# Altium footprint library 接口.PcbLib: 93 footprints (part 2 of 6)
Each footprint in its own frame and in the unit in brackets; x right, y up, seen from the top. Pads: shape width x height; smd on the part's side, far side on the other; paste and mask are expansions set on the pad; w line width, h text height; cw(c..) or ccw(c..) is an arc to the next point about the centre after c.
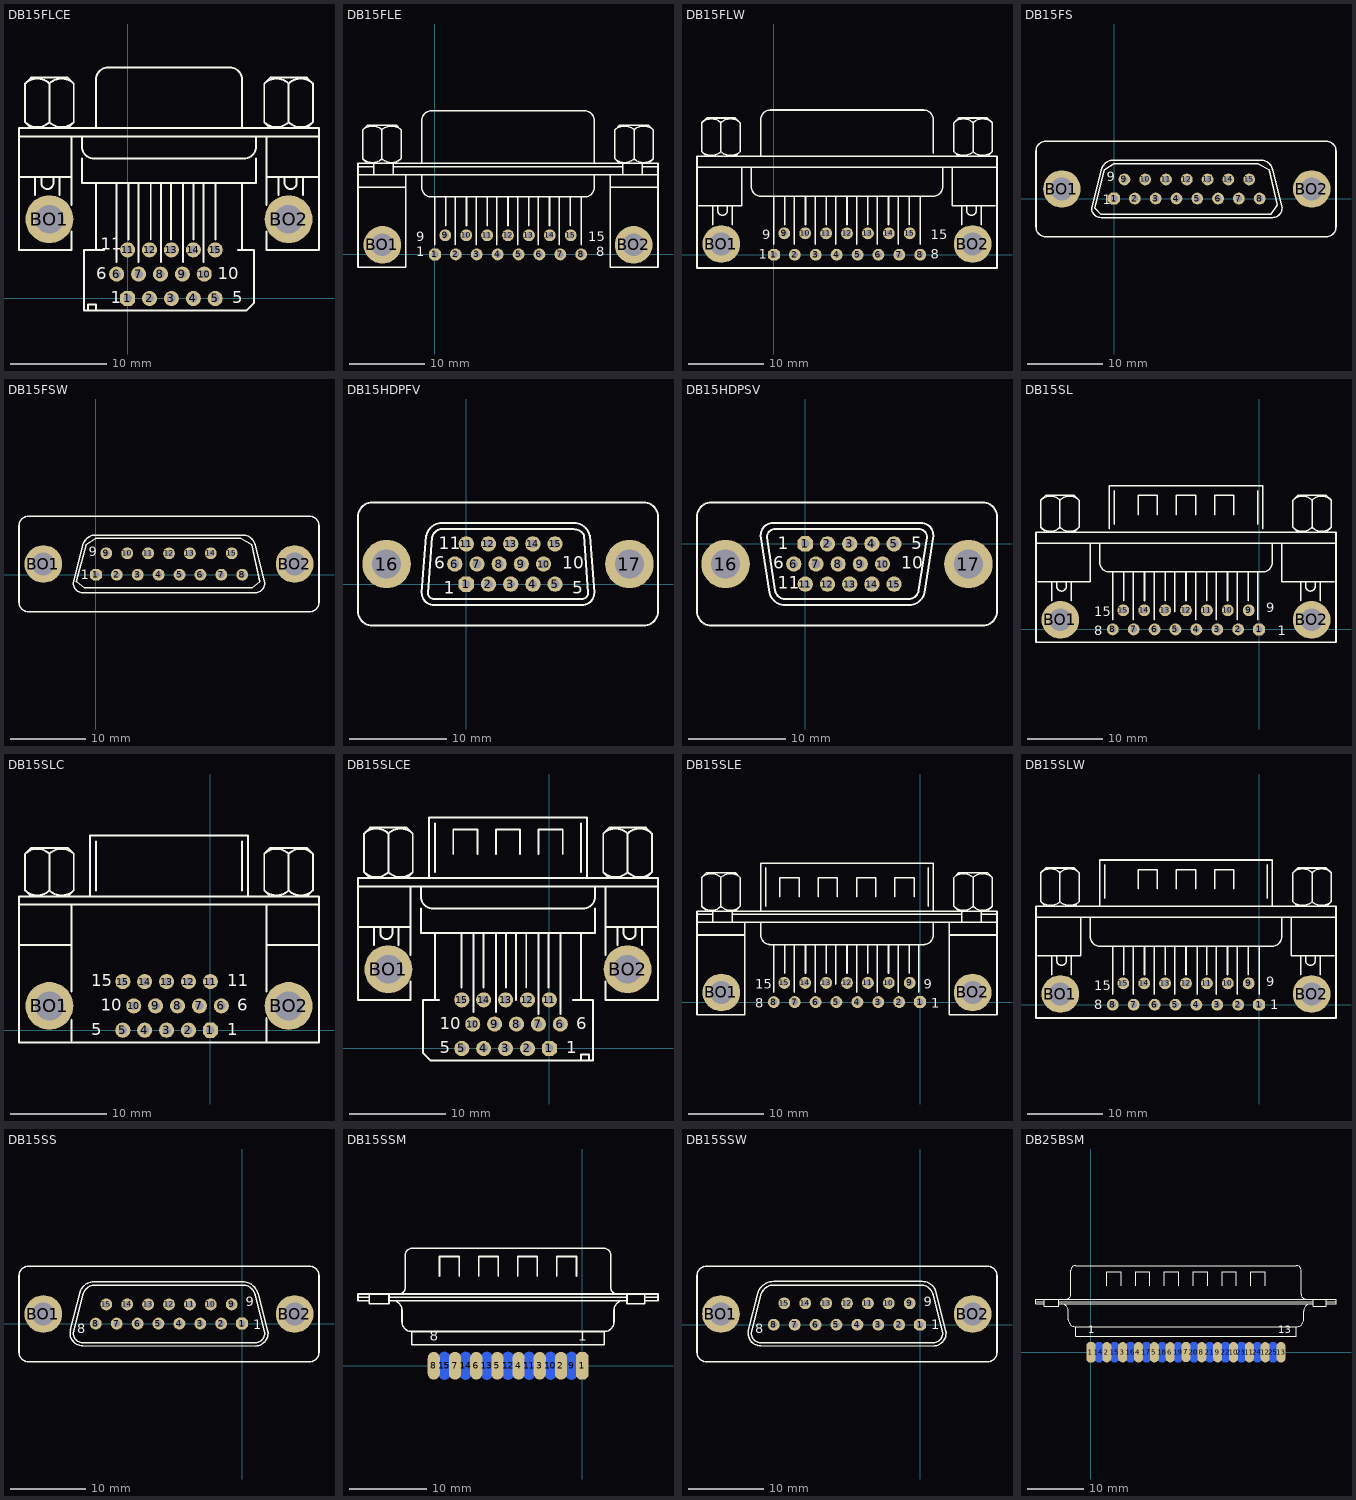
[diagram p1: the footprints below, top view; thin cyan lines are the x and y axes]

## DB15FLCE [mil]
pads (17):
  oct 62x62 hole 35: 1(0,0)
  round 62 hole 35: 2(90,0) 3(180,0) 4(270,0) 5(360,0) 6(-45,100) 7(45,100) 8(135,100) 9(225,100) 10(315,100) 11(0,200) 12(90,200) 13(180,200) 14(270,200) 15(360,200)
  round 196.67 hole 118.33: BO1(-321.67,325.83) BO2(661.67,325.83)
Top Overlay:
  lines w8: -446.67,500 -230,500 ; -446.67,666.67 786.67,666.67 ; -421.75,724.91 ccw(c-371.67,775) -321.58,724.91 ; -421.75,883.42 cw(c-371.67,833.33) -321.58,883.42 ; -396.67,700 -421.67,725 -421.67,883.33 -396.67,908.33 -246.67,908.33 -221.67,883.33 -221.67,725 -246.67,700 ; -380,425 -380,500 ; -355,500 -355,475 ccw(c-330,475) -305,475 -305,500 ; -321.75,724.91 ccw(c-271.67,775) -221.58,724.91 ; -321.75,883.42 cw(c-271.67,833.33) -221.58,883.42 ; -321.67,725 -321.67,883.33 ; -280,425 -280,500 ; -230,275 -230,200 -446.67,200 -446.67,700 786.67,700 786.67,200 570,200 570,275 ; -230,383.33 -230,500 ; -230,666.67 -230,500 ; -188.33,575 -188.33,475 528.33,475 528.33,575 ; -188.33,666.67 -188.33,625 ccw(c-138.33,625) -138.33,575 478.33,575 ccw(c478.33,625) 528.33,625 528.33,666.67 ; -163.33,-50 -163.33,-25 -130,-25 -130,-50 ; -130,200 -130,475 ; -130,700 -130,900 cw(c-80,900) -80,950 420,950 cw(c420,900) 470,900 470,700 ; -96.67,200 -180,200 -180,-50 -146.67,-50 486.67,-50 520,-16.67 520,200 453.33,200 ; -46.67,150 -46.67,475 ; 3.33,241.67 3.33,475 ; 45,150 45,475 ; 95,241.67 95,475 ; 136.67,150 136.67,475 ; 178.33,241.67 178.33,475 ; 228.33,150 228.33,475 ; 270,241.67 270,475 ; 311.67,150 311.67,475 ; 361.67,241.67 361.67,475 ; 470,200 470,475 ; 561.58,724.91 ccw(c611.67,775) 661.75,724.91 ; 561.58,883.42 cw(c611.67,833.33) 661.75,883.42 ; 570,383.33 570,500 ; 570,666.67 570,500 ; 586.67,700 561.67,725 561.67,883.33 586.67,908.33 736.67,908.33 761.67,883.33 761.67,725 736.67,700 ; 620,425 620,500 ; 645,500 645,475 ccw(c670,475) 695,475 695,500 ; 661.58,724.91 ccw(c711.67,775) 761.75,724.91 ; 661.58,883.42 cw(c711.67,833.33) 761.75,883.42 ; 661.67,725 661.67,883.33 ; 720,425 720,500 ; 786.67,500 570,500
  text "1" at -70,-20 h50
  text "5" at 430,-20 h50
  text "10" at 370,80 h50
  text "6" at -130,80 h50
  text "11" at -110,200 h50

## DB15FLE [mil]
pads (17):
  oct 62x62 hole 35: 1(0,0)
  round 62 hole 35: 2(109.17,0) 3(218.33,0) 4(327.5,0) 5(436.67,0) 6(545.83,0) 7(655,0) 8(764.17,0) 9(54.17,100) 10(163.33,100) 11(272.5,100) 12(381.67,100) 13(490.83,100) 14(600,100) 15(709.17,100)
  round 196.67 hole 118.33: BO1(-274.17,50) BO2(1037.5,50)
Top Overlay:
  lines w8: -401.67,350 -151.67,350 ; -401.67,416.67 1165,416.67 ; -401.67,458.33 -318.33,458.33 ; -376.75,499.91 ccw(c-326.67,550) -276.58,499.91 ; -376.75,650.09 cw(c-326.67,600) -276.58,650.09 ; -351.67,475 -376.67,500 -376.67,650 -351.67,675 -201.67,675 -176.67,650 -176.67,500 -201.67,483.33 ; -318.33,416.67 -318.33,475 ; -276.75,499.91 ccw(c-226.67,550) -176.58,499.91 ; -276.75,650.09 cw(c-226.67,600) -176.58,650.09 ; -276.67,500 -276.67,650 ; -218.33,416.67 -218.33,475 ; -218.33,458.33 981.67,458.33 ; -151.67,416.67 -151.67,-66.67 -401.67,-66.67 -401.67,475 1165,475 1165,-66.67 915,-66.67 915,416.67 ; -68.33,416.67 -68.33,350 ccw(c-18.33,350) -18.33,300 781.67,300 ccw(c781.67,350) 831.67,350 831.67,416.67 ; -68.33,475 -68.33,700 cw(c-18.33,700) -18.33,750 781.67,750 cw(c781.67,700) 831.67,700 831.67,475 ; -1.67,50 -1.67,300 ; 56.67,150 56.67,300 ; 106.67,50 106.67,300 ; 165,150 165,300 ; 215,50 215,300 ; 273.33,150 273.33,300 ; 323.33,50 323.33,300 ; 381.67,150 381.67,300 ; 431.67,50 431.67,300 ; 490,150 490,300 ; 540,50 540,300 ; 598.33,150 598.33,300 ; 648.33,50 648.33,300 ; 706.67,150 706.67,300 ; 765,50 765,300 ; 915,350 1165,350 ; 939.91,499.91 ccw(c990,550) 1040.09,499.91 ; 939.91,650.09 cw(c990,600) 1040.09,650.09 ; 965,475 940,500 940,650 965,675 1115,675 1140,650 1140,500 1115,475 ; 981.67,416.67 981.67,475 ; 1039.91,499.91 ccw(c1090,550) 1140.09,499.91 ; 1039.91,650.09 cw(c1090,600) 1140.09,650.09 ; 1040,500 1040,650 ; 1081.67,416.67 1081.67,475 ; 1081.67,458.33 1165,458.33
  text "8" at 841.67,-10 h50
  text "15" at 801.67,70 h50
  text "9" at -98.33,70 h50
  text "1" at -98.33,-10 h50

## DB15FLW [mil]
pads (17):
  oct 62x62 hole 35: 1(0,0)
  round 62 hole 35: 2(109.17,0) 3(218.33,0) 4(327.5,0) 5(436.67,0) 6(545.83,0) 7(655,0) 8(764.17,0) 9(54.17,111.67) 10(163.33,111.67) 11(272.5,111.67) 12(381.67,111.67) 13(490.83,111.67) 14(600,111.67) 15(709.17,111.67)
  round 196.67 hole 118.33: BO1(-274.17,55.83) BO2(1037.5,55.83)
Top Overlay:
  lines w8: -401.67,455.83 1165,455.83 ; -393.33,255.83 -368.33,255.83 -168.33,255.83 -168.33,455.83 ; -376.75,539.08 ccw(c-326.67,589.17) -276.58,539.08 ; -376.75,689.25 cw(c-326.67,639.17) -276.58,689.25 ; -351.67,514.17 -376.67,539.17 -376.67,689.17 -351.67,714.17 -201.67,714.17 -176.67,689.17 -176.67,539.17 -201.67,514.17 ; -318.33,155.83 -318.33,255.83 ; -293.33,255.83 -293.33,230.83 ccw(c-268.33,230.83) -243.33,230.83 -243.33,255.83 ; -276.75,539.08 ccw(c-226.67,589.17) -176.58,539.08 ; -276.75,689.25 cw(c-226.67,639.17) -176.58,689.25 ; -276.67,539.17 -276.67,689.17 ; -218.33,155.83 -218.33,255.83 ; -118.33,455.83 -118.33,355.83 ccw(c-68.33,355.83) -68.33,305.83 831.67,305.83 ccw(c831.67,355.83) 881.67,355.83 881.67,455.83 ; -68.33,514.17 -68.33,705.83 cw(c-18.33,705.83) -18.33,755.83 781.67,755.83 cw(c781.67,705.83) 831.67,705.83 831.67,530.83 ; -1.67,55.83 -1.67,305.83 ; 56.67,155.83 56.67,305.83 ; 106.67,55.83 106.67,305.83 ; 165,155.83 165,305.83 ; 215,55.83 215,305.83 ; 273.33,155.83 273.33,305.83 ; 323.33,55.83 323.33,305.83 ; 381.67,155.83 381.67,305.83 ; 431.67,55.83 431.67,305.83 ; 490,155.83 490,305.83 ; 540,55.83 540,305.83 ; 598.33,155.83 598.33,305.83 ; 648.33,55.83 648.33,305.83 ; 706.67,155.83 706.67,305.83 ; 765,55.83 765,305.83 ; 931.67,455.83 931.67,255.83 1156.67,255.83 ; 939.91,539.08 ccw(c990,589.17) 1040.09,539.08 ; 939.91,689.25 cw(c990,639.17) 1040.09,689.25 ; 965,514.17 940,539.17 940,689.17 965,714.17 1115,714.17 1140,689.17 1140,539.17 1115,514.17 ; 981.67,155.83 981.67,255.83 ; 1006.67,255.83 1006.67,230.83 ccw(c1031.67,230.83) 1056.67,230.83 1056.67,255.83 ; 1039.91,539.08 ccw(c1090,589.17) 1140.09,539.08 ; 1039.91,689.25 cw(c1090,639.17) 1140.09,689.25 ; 1040,539.17 1040,689.17 ; 1081.67,155.83 1081.67,255.83 ; -401.67,-69.17 1165,-69.17 1165,514.17 -401.67,514.17 -401.67,-69.17
  text "1" at -80,-20 h50
  text "8" at 820,-20 h50
  text "15" at 820,80 h50
  text "9" at -60,80 h50

## DB15FS [mil]
pads (17):
  oct 62x62 hole 35: 1(0,0)
  round 62 hole 35: 2(109.17,0) 3(218.33,0) 4(327.5,0) 5(436.67,0) 6(545.83,0) 7(655,0) 8(764.17,0) 9(54.17,100) 10(163.33,100) 11(272.5,100) 12(381.67,100) 13(490.83,100) 14(600,100) 15(709.17,100)
  round 196.67 hole 118.33: BO1(-274.17,50) BO2(1037.5,50)
Top Overlay:
  lines w8: -68.33,150 -118.33,-50 ccw(c-68.33,-50) -68.33,-100 831.67,-100 ccw(c831.67,-50) 881.67,-50 831.67,150 ; -67.97,149.86 cw(c-1.67,133.33) -18.2,199.64 ; -18.33,200 781.67,200 ; 781.57,200.26 cw(c773.33,141.67) 831.92,149.9 ; -410,-150 ccw(c-360,-150) -360,-200 1115,-200 ccw(c1115,-150) 1165,-150 1165,250 ccw(c1115,250) 1115,300 -360,300 ccw(c-360,250) -410,250 -410,-150 ; -101.67,-50 -51.67,150 -1.67,183.33 756.67,183.33 815,150 856.67,-33.33 823.33,-83.33 -68.33,-83.33 -101.67,-50
  text "9" at -38.33,90 h50
  text "1" at -58.33,-30 h50

## DB15FSW [mil]
pads (17):
  oct 62x62 hole 35: 1(0,0)
  round 62 hole 35: 2(109.17,0) 3(218.33,0) 4(327.5,0) 5(436.67,0) 6(545.83,0) 7(655,0) 8(764.17,0) 9(54.17,111.67) 10(163.33,111.67) 11(272.5,111.67) 12(381.67,111.67) 13(490.83,111.67) 14(600,111.67) 15(709.17,111.67)
  round 196.67 hole 118.33: BO1(-274.17,55.83) BO2(1037.5,55.83)
Top Overlay:
  lines w8: -68.63,155.3 cw(c6.67,130.83) -17.8,206.12 ; -68.33,155.83 -118.33,-44.17 ccw(c-68.33,-44.17) -68.33,-94.17 831.67,-94.17 ccw(c831.67,-44.17) 881.67,-44.17 831.67,155.83 ; -18.33,205.83 781.67,205.83 ; 781.53,205.47 cw(c765,139.17) 831.3,155.7 ; -401.67,-144.17 ccw(c-351.67,-144.17) -351.67,-194.17 1115,-194.17 ccw(c1115,-144.17) 1165,-144.17 1165,255.83 ccw(c1115,255.83) 1115,305.83 -351.67,305.83 ccw(c-351.67,255.83) -401.67,255.83 -401.67,-144.17 ; -101.67,-35.83 -51.67,155.83 -1.67,189.17 756.67,189.17 815,155.83 856.67,-35.83 815,-69.17 -60,-69.17 -101.67,-35.83
  text "1" at -78.33,-24.17 h50
  text "9" at -38.33,95.83 h50

## DB15HDPFV [mil]
pads (17):
  oct 62x62 hole 35: 1(0,0)
  round 62 hole 35: 2(90,0) 3(180,0) 4(270,0) 5(360,0) 6(-46.67,81.67) 7(43.33,81.67) 8(133.33,81.67) 9(223.33,81.67) 10(313.33,81.67) 11(0,163.33) 12(90,163.33) 13(180,163.33) 14(270,163.33) 15(360,163.33)
  round 196.67 hole 118.33: 16(-323.33,81.67) 17(661.67,81.67)
Top Overlay:
  lines w8: -162.5,196.67 -180.83,-35 ccw(c-130.83,-35) -130.83,-85 469.17,-85 ccw(c469.17,-35) 519.17,-35 500.83,196.67 ; -162.19,197.79 cw(c-97.5,181.67) -97.5,248.33 435.83,248.33 cw(c435.83,181.67) 500.52,197.79 ; -139.17,190 -155.83,-35 ccw(c-130.83,-35) -130.83,-60 469.17,-60 ccw(c469.17,-35) 494.17,-35 477.5,198.33 ; -138.4,189.62 cw(c-97.5,181.67) -97.5,223.33 435.83,223.33 ; 440,221.66 cw(c440,180) 477.12,198.91 ; -439.17,-110 ccw(c-380.83,-110) -380.83,-168.33 719.17,-168.33 ccw(c719.17,-110) 777.5,-110 777.5,273.33 ccw(c719.17,273.33) 719.17,331.66 -380.83,331.67 ccw(c-380.83,273.33) -439.17,273.33 -439.17,-110
  text "5" at 429.17,-38.33 h50
  text "10" at 389.17,61.67 h50
  text "11" at -110.83,141.67 h50
  text "6" at -130.83,61.67 h50
  text "1" at -90.83,-38.33 h50

## DB15HDPSV [mil]
pads (17):
  oct 62x62 hole 35: 1(0,0)
  round 62 hole 35: 2(90,0) 3(180,0) 4(270,0) 5(360,0) 6(-46.67,-81.67) 7(43.33,-81.67) 8(133.33,-81.67) 9(223.33,-81.67) 10(313.33,-81.67) 11(0,-163.33) 12(90,-163.33) 13(180,-163.33) 14(270,-163.33) 15(360,-163.33)
  round 196.67 hole 118.33: 16(-323.33,-81.67) 17(661.67,-81.67)
Top Overlay:
  lines w8: -145.83,-198.33 -180.83,35 cw(c-130.83,35) -130.83,85 469.17,85 cw(c469.17,35) 519.17,35 484.17,-198.33 ; -145.52,-197.79 ccw(c-80.83,-181.67) -80.83,-248.33 419.17,-248.33 ccw(c419.17,-181.67) 483.85,-197.79 ; -122.57,-189.62 ccw(c-81.67,-181.67) -81.67,-223.33 ; -122.5,-190 -155.83,26.67 cw(c-122.5,26.67) -122.5,60 460.83,60 cw(c460.83,26.67) 494.16,26.67 459.17,-190 ; -80.83,-223.33 419.17,-223.33 ccw(c419.17,-181.67) 460.07,-189.62 ; -439.17,-273.33 ccw(c-380.83,-273.33) -380.83,-331.66 719.17,-331.67 ccw(c719.17,-273.33) 777.5,-273.33 777.5,110 ccw(c719.17,110) 719.17,168.33 -380.83,168.33 ccw(c-380.83,110) -439.17,110 -439.17,-273.33
  text "1" at -110.83,-21.67 h50
  text "6" at -130.83,-101.67 h50
  text "11" at -110.83,-181.67 h50
  text "10" at 389.17,-101.67 h50
  text "5" at 429.17,-21.67 h50

## DB15SL [mil]
pads (17):
  oct 62x62 hole 35: 1(0,0)
  round 62 hole 35: 2(-109.17,0) 3(-218.33,0) 4(-327.5,0) 5(-436.67,0) 6(-545.83,0) 7(-655,0) 8(-764.17,0) 9(-54.17,100) 10(-163.33,100) 11(-272.5,100) 12(-381.67,100) 13(-490.83,100) 14(-600,100) 15(-709.17,100)
  round 196.67 hole 118.33: BO1(-1037.5,50) BO2(274.17,50)
Top Overlay:
  lines w8: -1165,450 401.67,450 ; -1156.67,250 -881.67,250 -881.67,450 ; -1140.09,533.25 ccw(c-1090,583.33) -1039.91,533.25 ; -1140.09,675.09 cw(c-1090,625) -1039.91,675.09 ; -1115,508.33 -1140,533.33 -1140,675 -1115,700 -965,700 -940,675 -940,533.33 -965,508.33 ; -1081.67,150 -1081.67,250 ; -1056.67,250 -1056.67,225 ccw(c-1031.67,225) -1006.67,225 -1006.67,250 ; -1040.09,533.25 ccw(c-990,583.33) -939.91,533.25 ; -1040.09,675.09 cw(c-990,625) -939.91,675.09 ; -1040,533.33 -1040,675 ; -981.67,150 -981.67,250 ; -831.67,450 -831.67,350 ccw(c-781.67,350) -781.67,300 18.33,300 ccw(c18.33,350) 68.33,350 68.33,450 ; -781.67,525 -781.67,750 18.33,750 18.33,525 ; -765,50 -765,300 ; -756.67,550 -756.67,725 ; -706.67,150 -706.67,300 ; -656.67,50 -656.67,300 ; -631.67,600 -631.67,700 -531.67,700 -531.67,600 ; -598.33,150 -598.33,300 ; -548.33,50 -548.33,300 ; -490,150 -490,300 ; -440,91.67 -440,300 ; -431.67,600 -431.67,700 -331.67,700 -331.67,600 ; -381.67,150 -381.67,300 ; -331.67,50 -331.67,300 ; -273.33,150 -273.33,300 ; -231.67,600 -231.67,700 -131.67,700 -131.67,600 ; -223.33,50 -223.33,300 ; -165,150 -165,300 ; -115,50 -115,300 ; -56.67,150 -56.67,300 ; -6.67,50 -6.67,300 ; -6.67,550 -6.67,725 ; 118.33,450 118.33,250 393.33,250 ; 176.58,533.25 ccw(c226.67,583.33) 276.75,533.25 ; 176.58,675.09 cw(c226.67,625) 276.75,675.09 ; 201.67,508.33 176.67,533.33 176.67,675 201.67,700 351.67,700 376.67,675 376.67,533.33 351.67,508.33 ; 218.33,150 218.33,250 ; 243.33,250 243.33,225 ccw(c268.33,225) 293.33,225 293.33,250 ; 276.58,533.25 ccw(c326.67,583.33) 376.75,533.25 ; 276.58,675.09 cw(c326.67,625) 376.75,675.09 ; 276.67,533.33 276.67,675 ; 318.33,150 318.33,250 ; -1165,-66.67 -1165,508.33 401.67,508.33 401.67,-66.67 -1165,-66.67
  text "15" at -861.67,70 h50
  text "8" at -861.67,-30 h50
  text "1" at 98.33,-30 h50
  text "9" at 38.33,90 h50

## DB15SLC [mil]
pads (17):
  oct 62x62 hole 35: 1(0,0)
  round 62 hole 35: 2(-90,0) 3(-180,0) 4(-270,0) 5(-360,0) 6(45,100) 7(-45,100) 8(-135,100) 9(-225,100) 10(-315,100) 11(0,200) 12(-90,200) 13(-180,200) 14(-270,200) 15(-360,200)
  round 196.67 hole 118.33: BO1(-661.67,100) BO2(321.67,100)
Top Overlay:
  lines w8: -786.67,350 -570,350 ; -786.67,516.67 446.67,516.67 ; -761.75,574.91 ccw(c-711.67,625) -661.58,574.91 ; -761.75,725.09 cw(c-711.67,675) -661.58,725.09 ; -736.67,550 -761.67,575 -761.67,725 -736.67,750 -586.67,750 -561.67,725 -561.67,575 -586.67,550 ; -661.75,574.91 ccw(c-611.67,625) -561.58,574.91 ; -661.75,725.09 cw(c-611.67,675) -561.58,725.09 ; -661.67,575 -661.67,725 ; -570,-41.67 -570,41.67 ; -570,158.33 -570,516.67 ; -495,550 -495,800 155,800 155,550 ; -470,575 -470,775 ; 130,575 130,775 ; 221.58,574.91 ccw(c271.67,625) 321.75,574.91 ; 221.58,725.09 cw(c271.67,675) 321.75,725.09 ; 230,-50 230,50 ; 230,158.33 230,516.67 ; 230,350 446.67,350 ; 246.67,550 221.67,575 221.67,725 246.67,750 396.67,750 421.67,725 421.67,575 396.67,550 ; 321.58,574.91 ccw(c371.67,625) 421.75,574.91 ; 321.58,725.09 cw(c371.67,675) 421.75,725.09 ; 321.67,575 321.67,725 ; -786.67,-50 446.67,-50 446.67,550 -786.67,550 -786.67,-50
  text "11" at 70,180 h50
  text "6" at 110,80 h50
  text "1" at 70,-20 h50
  text "5" at -490,-20 h50
  text "10" at -450,80 h50
  text "15" at -490,180 h50

## DB15SLCE [mil]
pads (17):
  oct 62x62 hole 35: 1(0,0)
  round 62 hole 35: 2(-90,0) 3(-180,0) 4(-270,0) 5(-360,0) 6(45,100) 7(-45,100) 8(-135,100) 9(-225,100) 10(-315,100) 11(0,200) 12(-90,200) 13(-180,200) 14(-270,200) 15(-360,200)
  round 196.67 hole 118.33: BO1(-661.67,325.83) BO2(321.67,325.83)
Top Overlay:
  lines w8: -786.67,500 -570,500 ; -786.67,666.67 446.67,666.67 ; -761.75,724.91 ccw(c-711.67,775) -661.58,724.91 ; -761.75,883.42 cw(c-711.67,833.33) -661.58,883.42 ; -736.67,700 -761.67,725 -761.67,883.33 -736.67,908.33 -586.67,908.33 -561.67,883.33 -561.67,725 -586.67,700 ; -720,425 -720,500 ; -695,500 -695,475 ccw(c-670,475) -645,475 -645,500 ; -661.75,724.91 ccw(c-611.67,775) -561.58,724.91 ; -661.75,883.42 cw(c-611.67,833.33) -561.58,883.42 ; -661.67,725 -661.67,883.33 ; -620,425 -620,500 ; -570,275 -570,200 -786.67,200 -786.67,700 446.67,700 446.67,200 230,200 230,275 ; -570,383.33 -570,500 ; -570,666.67 -570,500 ; -528.33,575 -528.33,475 188.33,475 188.33,575 ; -528.33,666.67 -528.33,625 ccw(c-478.33,625) -478.33,575 138.33,575 ccw(c138.33,625) 188.33,625 188.33,666.67 ; -495,700 -495,950 155,950 155,700 ; -470,200 -470,475 ; -470,725 -470,925 ; -453.33,200 -520,200 -520,-16.67 -486.67,-50 146.67,-50 180,-50 180,200 96.67,200 ; -395,800 -395,900 -295,900 -295,800 ; -361.67,250 -361.67,475 ; -311.67,150 -311.67,475 ; -270,250 -270,475 ; -220,150 -220,475 ; -220,800 -220,900 -120,900 -120,800 ; -178.33,250 -178.33,475 ; -136.67,200 -136.67,475 ; -95,250 -95,475 ; -45,141.67 -45,475 ; -45,800 -45,900 55,900 55,800 ; -3.33,250 -3.33,475 ; 46.67,141.67 46.67,475 ; 130,-50 130,-25 163.33,-25 163.33,-50 ; 130,200 130,475 ; 130,725 130,925 ; 221.58,724.91 ccw(c271.67,775) 321.75,724.91 ; 221.58,883.42 cw(c271.67,833.33) 321.75,883.42 ; 230,383.33 230,500 ; 230,666.67 230,500 ; 246.67,700 221.67,725 221.67,883.33 246.67,908.33 396.67,908.33 421.67,883.33 421.67,725 396.67,700 ; 280,425 280,500 ; 305,500 305,475 ccw(c330,475) 355,475 355,500 ; 321.58,724.91 ccw(c371.67,775) 421.75,724.91 ; 321.58,883.42 cw(c371.67,833.33) 421.75,883.42 ; 321.67,725 321.67,883.33 ; 380,425 380,500 ; 446.67,500 230,500
  text "1" at 70,-20 h50
  text "10" at -450,80 h50
  text "5" at -450,-20 h50
  text "6" at 110,80 h50

## DB15SLE [mil]
pads (17):
  oct 62x62 hole 35: 1(0,0)
  round 62 hole 35: 2(-109.17,0) 3(-218.33,0) 4(-327.5,0) 5(-436.67,0) 6(-545.83,0) 7(-655,0) 8(-764.17,0) 9(-54.17,100) 10(-163.33,100) 11(-272.5,100) 12(-381.67,100) 13(-490.83,100) 14(-600,100) 15(-709.17,100)
  round 196.67 hole 118.33: BO1(-1037.5,50) BO2(274.17,50)
Top Overlay:
  lines w8: -1165,350 -915,350 ; -1165,416.67 401.67,416.67 ; -1165,458.33 -1081.67,458.33 ; -1140.09,499.91 ccw(c-1090,550) -1039.91,499.91 ; -1140.09,650.09 cw(c-1090,600) -1039.91,650.09 ; -1115,475 -1140,500 -1140,650 -1115,675 -965,675 -940,650 -940,500 -965,475 ; -1081.67,416.67 -1081.67,475 ; -1040.09,499.91 ccw(c-990,550) -939.91,499.91 ; -1040.09,650.09 cw(c-990,600) -939.91,650.09 ; -1040,500 -1040,650 ; -981.67,416.67 -981.67,475 ; -981.67,458.33 218.33,458.33 ; -915,416.67 -915,-66.67 -1165,-66.67 -1165,475 401.67,475 401.67,-66.67 151.67,-66.67 151.67,416.67 ; -831.67,416.67 -831.67,350 ccw(c-781.67,350) -781.67,300 18.33,300 ccw(c18.33,350) 68.33,350 68.33,416.67 ; -831.67,475 -831.67,725 68.33,725 68.33,475 ; -806.67,500 -806.67,700 ; -765,50 -765,300 ; -731.67,550 -731.67,650 -631.67,650 -631.67,550 ; -706.67,150 -706.67,300 ; -656.67,50 -656.67,300 ; -598.33,150 -598.33,300 ; -548.33,50 -548.33,300 ; -531.67,550 -531.67,650 -431.67,650 -431.67,550 ; -490,150 -490,300 ; -440,91.67 -440,300 ; -381.67,150 -381.67,300 ; -331.67,50 -331.67,300 ; -331.67,550 -331.67,650 -231.67,650 -231.67,550 ; -273.33,150 -273.33,300 ; -223.33,50 -223.33,300 ; -165,150 -165,300 ; -131.67,550 -131.67,650 -31.67,650 -31.67,550 ; -115,50 -115,300 ; -56.67,150 -56.67,300 ; -6.67,50 -6.67,300 ; 43.33,500 43.33,700 ; 151.67,350 401.67,350 ; 176.58,499.91 ccw(c226.67,550) 276.75,499.91 ; 176.58,650.09 cw(c226.67,600) 276.75,650.09 ; 201.67,475 176.67,500 176.67,650 201.67,675 351.67,675 376.67,650 376.67,500 351.67,475 ; 218.33,416.67 218.33,475 ; 276.58,499.91 ccw(c326.67,550) 376.75,499.91 ; 276.58,650.09 cw(c326.67,600) 376.75,650.09 ; 276.67,500 276.67,650 ; 318.33,416.67 318.33,475 ; 318.33,458.33 326.67,458.33 401.67,458.33
  text "15" at -861.67,70 h50
  text "8" at -861.67,-30 h50
  text "1" at 58.33,-30 h50
  text "9" at 18.33,70 h50

## DB15SLW [mil]
pads (17):
  oct 62x62 hole 35: 1(0,0)
  round 62 hole 35: 2(-109.17,0) 3(-218.33,0) 4(-327.5,0) 5(-436.67,0) 6(-545.83,0) 7(-655,0) 8(-764.17,0) 9(-54.17,111.67) 10(-163.33,111.67) 11(-272.5,111.67) 12(-381.67,111.67) 13(-490.83,111.67) 14(-600,111.67) 15(-709.17,111.67)
  round 196.67 hole 118.33: BO1(-1037.5,55.83) BO2(274.17,55.83)
Top Overlay:
  lines w8: -1165,455.83 401.67,455.83 ; -1156.67,255.83 -931.67,255.83 -931.67,455.83 ; -1140.09,539.08 ccw(c-1090,589.17) -1039.91,539.08 ; -1140.09,689.25 cw(c-1090,639.17) -1039.91,689.25 ; -1115,514.17 -1140,539.17 -1140,689.17 -1115,714.17 -965,714.17 -940,689.17 -940,539.17 -965,514.17 ; -1081.67,155.83 -1081.67,255.83 ; -1056.67,255.83 -1056.67,230.83 ccw(c-1031.67,230.83) -1006.67,230.83 -1006.67,255.83 ; -1040.09,539.08 ccw(c-990,589.17) -939.91,539.08 ; -1040.09,689.25 cw(c-990,639.17) -939.91,689.25 ; -1040,539.17 -1040,689.17 ; -981.67,155.83 -981.67,255.83 ; -881.67,455.83 -881.67,355.83 ccw(c-831.67,355.83) -831.67,305.83 68.33,305.83 ccw(c68.33,355.83) 118.33,355.83 118.33,455.83 ; -831.67,514.17 -831.67,755.83 68.33,755.83 68.33,514.17 ; -806.67,555.83 -806.67,730.83 ; -765,55.83 -765,305.83 ; -706.67,155.83 -706.67,305.83 ; -656.67,55.83 -656.67,305.83 ; -631.67,605.83 -631.67,705.83 -531.67,705.83 -531.67,605.83 ; -598.33,155.83 -598.33,305.83 ; -548.33,55.83 -548.33,305.83 ; -490,155.83 -490,305.83 ; -440,55.83 -440,305.83 ; -431.67,605.83 -431.67,705.83 -331.67,705.83 -331.67,605.83 ; -381.67,155.83 -381.67,305.83 ; -323.33,55.83 -323.33,305.83 ; -273.33,155.83 -273.33,305.83 ; -231.67,605.83 -231.67,705.83 -131.67,705.83 -131.67,605.83 ; -223.33,55.83 -223.33,305.83 ; -165,155.83 -165,305.83 ; -115,55.83 -115,305.83 ; -56.67,155.83 -56.67,305.83 ; 1.67,55.83 1.67,305.83 ; 43.33,555.83 43.33,730.83 ; 168.33,455.83 168.33,255.83 368.33,255.83 393.33,255.83 ; 176.58,539.08 ccw(c226.67,589.17) 276.75,539.08 ; 176.58,689.25 cw(c226.67,639.17) 276.75,689.25 ; 201.67,514.17 176.67,539.17 176.67,689.17 201.67,714.17 351.67,714.17 376.67,689.17 376.67,539.17 351.67,514.17 ; 218.33,155.83 218.33,255.83 ; 243.33,255.83 243.33,230.83 ccw(c268.33,230.83) 293.33,230.83 293.33,255.83 ; 276.58,539.08 ccw(c326.67,589.17) 376.75,539.08 ; 276.58,689.25 cw(c326.67,639.17) 376.75,689.25 ; 276.67,539.17 276.67,689.17 ; 318.33,155.83 318.33,255.83 ; -1165,-69.17 -1165,514.17 401.67,514.17 401.67,-69.17 -1165,-69.17
  text "9" at 38.33,95.83 h50
  text "1" at 58.33,-24.17 h50
  text "8" at -861.67,-24.17 h50
  text "15" at -861.67,75.83 h50

## DB15SS [mil]
pads (17):
  oct 62x62 hole 35: 1(0,0)
  round 62 hole 35: 2(-109.17,0) 3(-218.33,0) 4(-327.5,0) 5(-436.67,0) 6(-545.83,0) 7(-655,0) 8(-764.17,0) 9(-54.17,100) 10(-163.33,100) 11(-272.5,100) 12(-381.67,100) 13(-490.83,100) 14(-600,100) 15(-709.17,100)
  round 196.67 hole 118.33: BO1(-1037.5,50) BO2(274.17,50)
Top Overlay:
  lines w8: -896.67,-31.67 -848.33,158.33 ; -895.75,-31.62 ccw(c-831.67,-50) -831.67,-116.67 68.33,-118.33 ; -848.03,158.91 cw(c-773.33,141.67) -773.33,218.33 1.67,218.33 cw(c1.67,133.33) 82.95,158.18 ; -831.67,150 -881.67,-50 ccw(c-831.67,-50) -831.67,-100 68.33,-100 ccw(c68.33,-50) 118.33,-50 68.33,150 ; -831.3,149.86 cw(c-765,133.33) -781.53,199.64 ; -781.67,200 18.33,200 ; 18.2,199.64 cw(c1.67,133.33) 67.97,149.86 ; 68.33,-117.5 ccw(c68.33,-50) 135.33,-41.77 ; 83.33,156.67 135,-41.67 ; -1165,-150 ccw(c-1115,-150) -1115,-200 351.67,-200 ccw(c351.67,-150) 401.67,-150 401.67,250 ccw(c351.67,250) 351.67,300 -1115,300 ccw(c-1115,250) -1165,250 -1165,-150
  text "8" at -861.67,-50 h50
  text "1" at 58.33,-30 h50
  text "9" at 18.33,90 h50

## DB15SSM [mil]
pads (15):
  oct 62.5x141.67 smd: 1(0,0)
  oval 62.5x141.67 smd: 2(-108.33,0) 3(-216.67,0) 4(-325,0) 5(-433.33,0) 6(-541.67,0) 7(-650,0) 8(-758.33,0)
  oval 62.5x141.67 smd far side: 9(-54.17,0) 10(-162.5,0) 11(-270.83,0) 12(-379.17,0) 13(-487.5,0) 14(-595.83,0) 15(-704.17,0)
Top Overlay:
  lines w8: -1145.83,350 -1087.5,350 ; -1087.5,333.33 -1145.83,333.33 -1145.83,366.67 387.5,366.67 387.5,333.33 320.83,333.33 ; -1087.5,366.67 -1087.5,316.67 -987.5,316.67 -987.5,366.67 ; -987.5,333.33 229.17,333.33 ; -987.5,350 229.17,350 ; -970.83,333.33 cw(c-970.83,283.33) -920.83,283.33 -920.83,225 ccw(c-870.83,225) -870.83,175 ; -937.5,366.67 ccw(c-937.5,400) -904.17,400 -904.17,566.67 cw(c-870.83,566.67) -870.83,600 112.5,600 cw(c112.5,566.67) 145.83,566.67 145.83,400 ccw(c179.17,400) 179.17,366.67 ; -729.17,458.33 -729.17,558.33 -629.17,558.33 -629.17,458.33 ; -529.17,458.33 -529.17,558.33 -429.17,558.33 -429.17,458.33 ; -329.17,458.33 -329.17,558.33 -229.17,558.33 -229.17,458.33 ; -129.17,458.33 -129.17,558.33 -29.17,558.33 -29.17,458.33 ; 212.5,333.33 ccw(c212.5,283.33) 162.5,283.33 162.5,225 cw(c112.5,225) 112.5,175 ; 229.17,366.67 229.17,316.67 320.83,316.67 320.83,366.67 ; 320.83,350 387.5,350 ; -870.83,175 112.5,175 ; -870.83,175 -870.83,108.33 112.5,108.33 112.5,175
  text "1" at -19.17,128.33 h50
  text "8" at -779.17,128.33 h50

## DB15SSW [mil]
pads (17):
  oct 62x62 hole 35: 1(0,0)
  round 62 hole 35: 2(-109.17,0) 3(-218.33,0) 4(-327.5,0) 5(-436.67,0) 6(-545.83,0) 7(-655,0) 8(-764.17,0) 9(-54.17,111.67) 10(-163.33,111.67) 11(-272.5,111.67) 12(-381.67,111.67) 13(-490.83,111.67) 14(-600,111.67) 15(-709.17,111.67)
  round 196.67 hole 118.33: BO1(-1040,55.83) BO2(274.17,55.83)
Top Overlay:
  lines w8: -896.67,-29.17 -848.33,164.17 ; -896.35,-28.04 ccw(c-831.67,-44.17) -831.67,-110.83 68.33,-112.5 ; -847.88,164.5 cw(c-765,139.17) -765,225.83 10,225.83 cw(c10,147.5) 79.8,183.06 ; -831.96,155.3 cw(c-756.67,130.83) -781.13,206.12 ; -831.67,155.83 -881.67,-44.17 ccw(c-831.67,-44.17) -831.67,-94.17 68.33,-94.17 ccw(c68.33,-44.17) 118.33,-44.17 68.33,155.83 ; -781.67,205.83 18.33,205.83 ; 18.2,205.47 cw(c1.67,139.17) 67.97,155.7 ; 68.33,-111.67 ccw(c68.33,-44.17) 135.33,-35.94 ; 80,182.5 135,-35.83 ; -1165,-144.17 ccw(c-1115,-144.17) -1115,-194.17 351.67,-194.17 ccw(c351.67,-144.17) 401.67,-144.17 401.67,255.83 ccw(c351.67,255.83) 351.67,305.83 -1115,305.83 ccw(c-1115,255.83) -1165,255.83 -1165,-144.17
  text "8" at -861.67,-44.17 h50
  text "1" at 58.33,-24.17 h50
  text "9" at 18.33,95.83 h50

## DB25BSM [mil]
pads (25):
  oct 62.5x141.67 smd: 1(0,0)
  oval 62.5x141.67 smd: 2(110,0) 3(220,0) 4(330,0) 5(440,0) 6(550,0) 7(660,1.67) 8(770,0) 9(880,0) 10(990,0) 11(1100,0) 12(1210,0) 13(1320,0)
  oval 62.5x141.67 smd far side: 14(55,0) 15(165,0) 16(275,0) 17(385,0) 18(495,0) 19(605,0) 20(715,0) 21(825,0) 22(935,0) 23(1045,0) 24(1155,0) 25(1265,0)
Top Overlay:
  lines w8: -381.67,351.67 -323.33,351.67 ; -323.33,335 -381.67,335 -381.67,368.33 1701.67,368.33 1701.67,335 1635,335 ; -323.33,368.33 -323.33,318.33 -223.33,318.33 -223.33,368.33 ; -223.33,335 1543.33,335 ; -223.33,351.67 1543.33,351.67 ; -206.67,335 cw(c-206.67,285) -156.67,285 -156.67,226.67 ccw(c-106.67,226.67) -106.67,176.67 ; -173.33,368.33 ccw(c-173.33,401.67) -140,401.67 -140,568.33 cw(c-106.67,568.33) -106.67,601.67 1426.67,601.67 cw(c1426.67,568.33) 1460,568.33 1460,401.67 ccw(c1493.33,401.67) 1493.33,368.33 ; 110,460 110,560 210,560 210,460 ; 310,460 310,560 410,560 410,460 ; 510,460 510,560 610,560 610,460 ; 710,460 710,560 810,560 810,460 ; 910,460 910,560 1010,560 1010,460 ; 1110,460 1110,560 1210,560 1210,460 ; 1526.67,335 ccw(c1526.67,285) 1476.67,285 1476.67,226.67 cw(c1426.67,226.67) 1426.67,176.67 ; 1543.33,368.33 1543.33,318.33 1635,318.33 1635,368.33 ; 1635,351.67 1701.67,351.67 ; -106.67,176.67 -106.67,110 1426.67,110 1426.67,176.67 ; -106.67,176.67 1426.67,176.67
  text "1" at -20,130 h50
  text "13" at 1300,130 h50